# EAGLE library part SLIMEUHD_DEVICE (library slimuhd_librery)
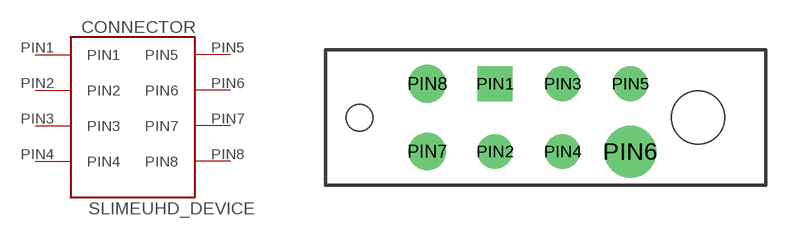
[diagram p0: symbol with the pads of SLIMUHD_PACKEGE; footprint SLIMUHD_PACKEGE]

Designator prefix CONNECTOR

## SLIMEUHD_DEVICE  [SLIMUHD_PACKEGE]
PIN1  PIN1
PIN2  PIN2
PIN3  PIN3
PIN4  PIN4
PIN5  PIN5
PIN6  PIN6
PIN7  PIN7
PIN8  PIN8

## Footprint SLIMUHD_PACKEGE (pad centres in mm)
drill 0.8 square: PIN1 1.27,3.81
drill 0.8: PIN2 1.27,1.27; PIN3 3.81,3.81; PIN4 3.81,1.27; PIN5 6.35,3.81
drill 1.3: PIN6 6.35,1.27
drill 0.5 pad 1.422: PIN7 -1.27,1.27; PIN8 -1.27,3.81
hole 2 at 8.89,2.54
hole 1 at -3.81,2.54